# Altium schematic symbol library VI-J60-IX.SchLib: 1 symbol
Pins are listed as number, name and electrical type; pins without a type are passive.

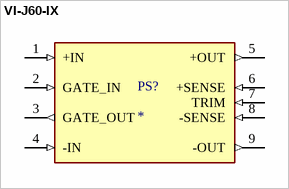
[diagram p0: symbol VI-J60-IX]

## VI-J60-IX
designator PS?
Isolated Module DC DC Converter 1 Output 5V - 20A ; 200V - 400V Input Voltage; MF: Vicor Corporation; MP: VI-J60-IX; SnapEDA_Link: https://www.snapeda.com/parts/VI-J60-IX/Vicor+Corporation/view-part/?ref=snap; Package: HALF BRICK-9 Vicor Corporation; Value: *; Check_prices: https://www.snapeda.com/parts/VI-J60-IX/Vicor+Corporation/view-part/?ref=eda
footprint CONV_VI-J60-IX
pins: 1 +IN (in), 2 GATE_IN (in), 3 GATE_OUT (out), 4 -IN (in), 5 +OUT (out), 6 +SENSE (in), 7 TRIM (in), 8 -SENSE (in), 9 -OUT (out)